# EAGLE library part BMP280 (library BMP280)
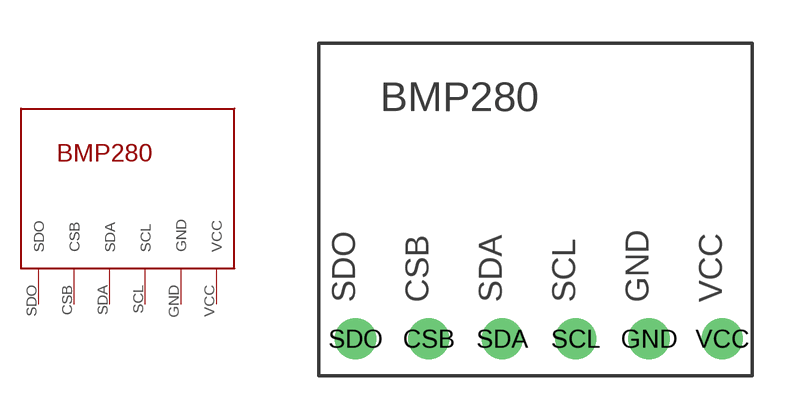
[diagram p0: symbol with the pads of BMP280; footprint BMP280]

Designator prefix -

## BMP280  [BMP280]
CSB  CSB
GND  GND
SCL  SCL
SDA  SDA
SDO  SDO
VCC  VCC

## Footprint BMP280 (pad centres in mm)
drill 0.9 pad 1.422: CSB 3.81,1.27; GND 11.43,1.27; SCL 8.89,1.27; SDA 6.35,1.27; SDO 1.27,1.27; VCC 13.97,1.27